# Altium schematic symbol library 6S_BMS.SchLib: 26 symbols
Pins are listed as number, name and electrical type; pins without a type are passive.

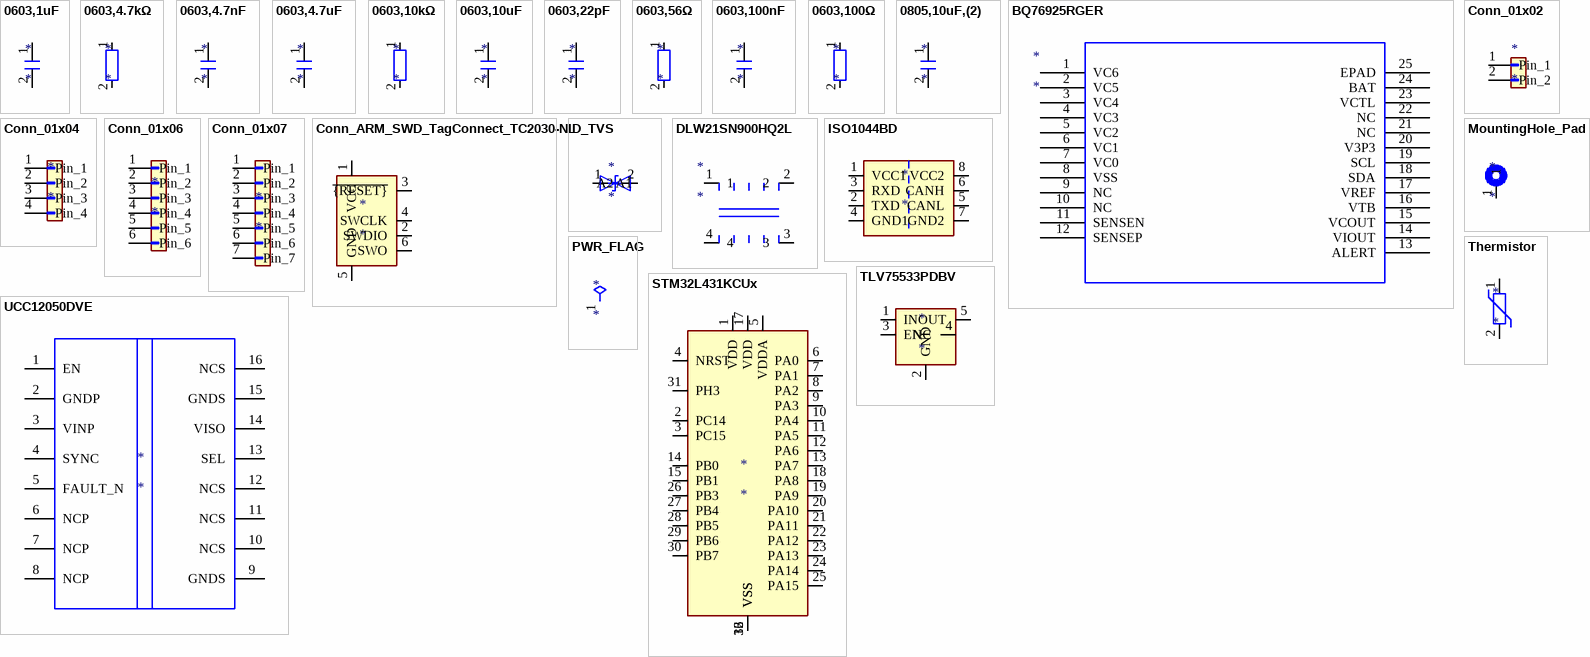
[diagram p0: symbols 0603,1uF to UCC12050DVE]

## 0603,1uF
designator *
pins: 1, 2

## 0603,4.7kΩ
designator *
pins: 1, 2

## 0603,4.7nF
designator *
pins: 1, 2

## 0603,4.7uF
designator *
pins: 1, 2

## 0603,10kΩ
designator *
pins: 1, 2

## 0603,10uF
designator *
pins: 1, 2

## 0603,22pF
designator *
pins: 1, 2

## 0603,56Ω
designator *
pins: 1, 2

## 0603,100nF
designator *
pins: 1, 2

## 0603,100Ω
designator *
pins: 1, 2

## 0805,10uF,(2)
designator *
pins: 1, 2

## BQ76925RGER
designator *
pins: 1 VC6, 2 VC5, 3 VC4, 4 VC3, 5 VC2, 6 VC1, 7 VC0, 8 VSS, 9 NC, 10 NC, 11 SENSEN, 12 SENSEP, 13 ALERT, 14 VIOUT, 15 VCOUT, 16 VTB, 17 VREF, 18 SDA, 19 SCL, 20 V3P3, 21 NC, 22 NC, 23 VCTL, 24 BAT, 25 EPAD

## Conn_01x02
designator *
pins: 1 Pin_1, 2 Pin_2

## Conn_01x04
designator *
pins: 1 Pin_1, 2 Pin_2, 3 Pin_3, 4 Pin_4

## Conn_01x06
designator *
pins: 1 Pin_1, 2 Pin_2, 3 Pin_3, 4 Pin_4, 5 Pin_5, 6 Pin_6

## Conn_01x07
designator *
pins: 1 Pin_1, 2 Pin_2, 3 Pin_3, 4 Pin_4, 5 Pin_5, 6 Pin_6, 7 Pin_7

## Conn_ARM_SWD_TagConnect_TC2030-NL
designator *
pins: 1 VCC, 2 SWDIO, 3 ~{{RESET}}, 4 SWCLK, 5 GND, 6 SWO

## D_TVS
designator *
pins: 1 A1, 2 A2

## DLW21SN900HQ2L
designator *
pins: 1, 2, 3, 4

## ISO1044BD
designator *
pins: 1 VCC1, 2 TXD, 3 RXD, 4 GND1, 5 CANL, 6 CANH, 7 GND2, 8 VCC2

## MountingHole_Pad
designator *
pins: 1

## PWR_FLAG
designator *  (graphical)
pins: 1

## STM32L431KCUx
designator *
pins: 1 VDD, 2 PC14, 3 PC15, 4 NRST, 5 VDDA, 6 PA0, 7 PA1, 8 PA2, 9 PA3, 10 PA4, 11 PA5, 12 PA6, 13 PA7, 14 PB0, 15 PB1, 16 VSS, 17 VDD, 18 PA8, 19 PA9, 20 PA10, 21 PA11, 22 PA12, 23 PA13, 24 PA14, 25 PA15, 26 PB3, 27 PB4, 28 PB5, 29 PB6, 30 PB7, 31 PH3, 32 VSS, 33 VSS

## Thermistor
designator *
pins: 1, 2

## TLV75533PDBV
designator *
pins: 1 IN, 2 GND, 3 EN, 4 NC, 5 OUT

## UCC12050DVE
designator *
pins: 1 EN, 2 GNDP, 3 VINP, 4 SYNC, 5 FAULT_N, 6 NCP, 7 NCP, 8 NCP, 9 GNDS, 10 NCS, 11 NCS, 12 NCS, 13 SEL, 14 VISO, 15 GNDS, 16 NCS